# Altium footprint library Resistors.PcbLib: 28 footprints (part 2 of 2)
Each footprint in its own frame and in the unit in brackets; x right, y up, seen from the top. Pads: shape width x height; smd on the part's side, far side on the other; paste and mask are expansions set on the pad; w line width, h text height; cw(c..) or ccw(c..) is an arc to the next point about the centre after c.
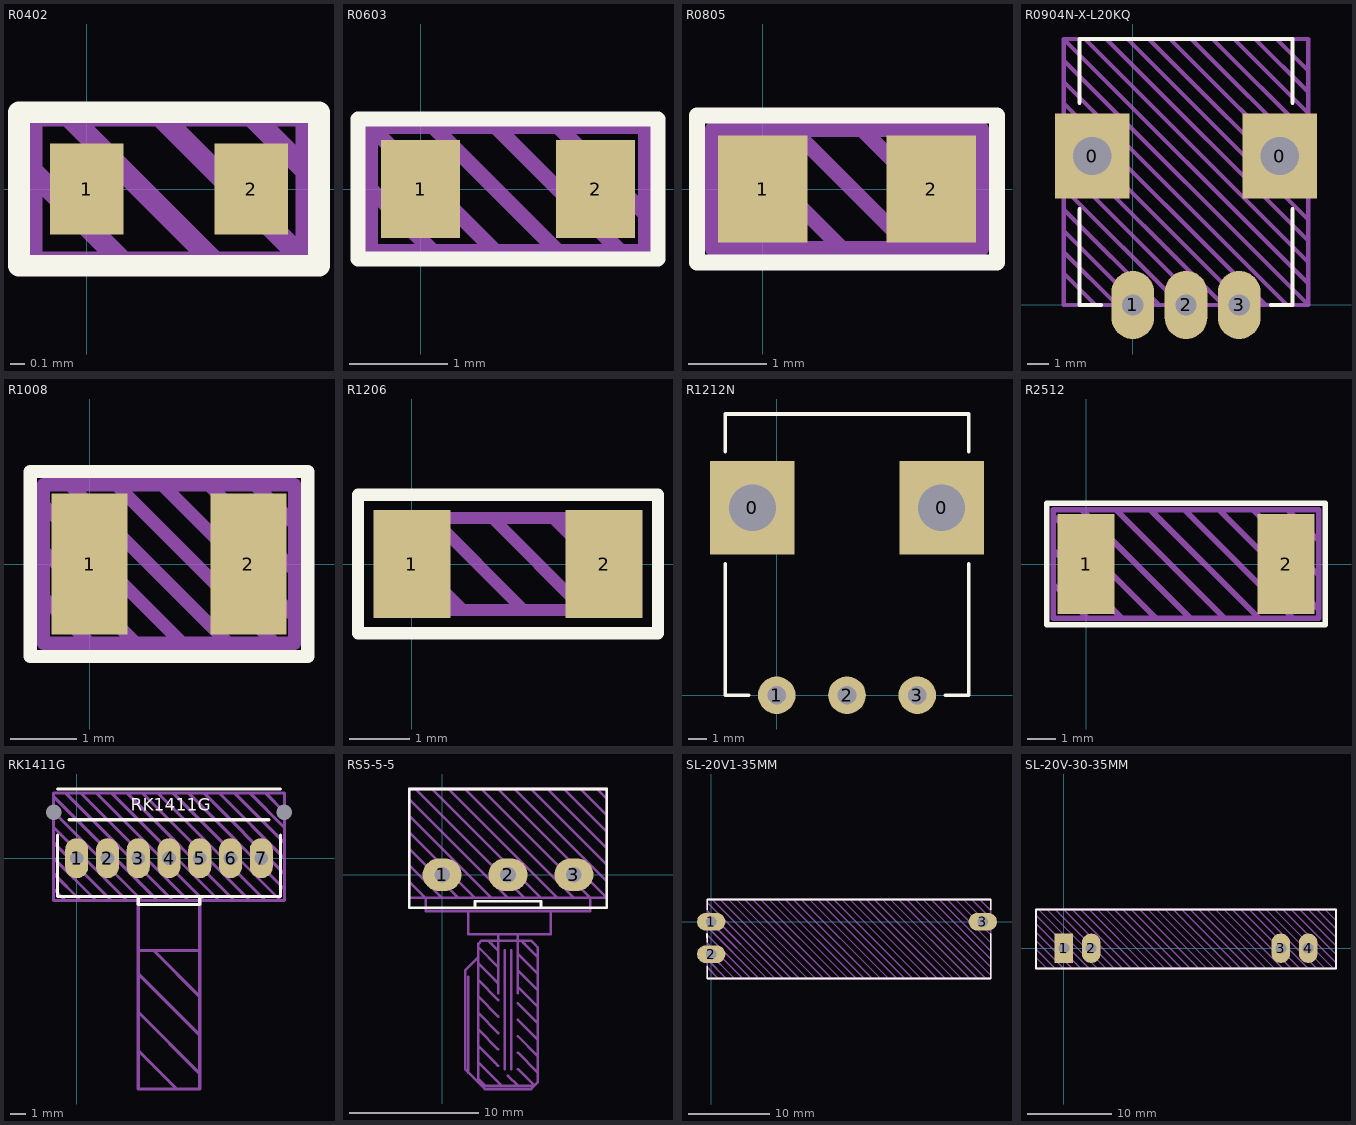
[diagram p1: the footprints below, top view; thin cyan lines are the x and y axes]

## R0402 [mil]
pads (2):
  rect 20x25 smd: 1(0,0) 2(45,0)
Top Overlay:
  lines w5.91: -18.5,-21 63.5,-21 63.5,21 -18.5,21 -18.5,-21
Top Draw:
  lines w5.91: -15,5 10,-20 ; -5,20 35,-20 ; 20,20 60,-20 ; 45,20 60,5 ; 60,-20 60,20 -15,20 -15,-20 60,-20
Top Info:
  text "'.Comment'" at -36.04,-43.04 h13.78
3D body "RESC1005X04N.step": height 15.75, standoff 0, extent 2.03,-10.43 42.97,10.43

## R0603 [mm]
pads (2):
  rect 0.8x1 smd: 1(0,0) 2(1.778,0)
Top Overlay:
  lines w0.15: -0.635,-0.711 2.413,-0.711 2.413,0.711 -0.635,0.711 -0.635,-0.711
Top Draw:
  lines w0.15: -0.508,0 0.127,-0.635 ; 0.127,0.635 1.397,-0.635 ; 0.762,-0.635 -0.508,0.635 ; 0.762,0.635 2.032,-0.635 ; 1.397,0.635 2.286,-0.254 ; -0.508,0.635 2.286,0.635 2.286,-0.635 -0.508,-0.635 -0.508,0.635
Top Info:
  text "'.Comment'" at -1.224,-1.492 h0.5
3D body "Chip2PinSM127P600-8N.step": height 0.5, standoff 0, extent 0.104,-0.395 1.674,0.395

## R0805 [mil]
pads (2):
  rect 45x54 smd: 1(0,0) 2(85,0)
Top Overlay:
  lines w7.87: -33,-37 -33,37 118,37 118,-37 -33,-37
Top Draw:
  lines w7.87: -25,0 5,-30 ; -20,30 40,-30 ; 15,30 75,-30 ; 35,-30 42.5,-30 ; 50,30 110,-30 ; 85,30 110,5 ; 110,-30 110,30 -25,30 -25,-30 110,-30
Top Info:
  text "'.Comment'" at -82.14,-84.15 h29.53
3D body "Chip2PinSM127P600-8N999.step": height 23.62, standoff 0, extent 2.06,-25.98 83.95,25.99

## R0904N-X-L20KQ [mm] "R0904N Family Potentiometer"
pads (5):
  rect 3.5x4 hole 1.8 square: 0(-1.9,7) 0(6.9,7)
  oval 2x3.2 hole 1: 1(0,0) 2(2.5,0) 3(5,0)
Top Overlay:
  lines w0.2: -2.5,4.5 -2.5,0 -1.5,0 ; -2.5,9.5 -2.5,12.5 7.5,12.5 7.5,9.5 ; 6.5,0 7.5,0 7.5,4.5
Top Draw:
  lines w0.2: -3.25,1.5 -1.75,0 ; -3.25,2.5 -0.75,0 ; -3.25,3.5 0.25,0 ; -3.25,4.5 1.25,0 ; -3.25,5.5 2.25,0 ; -3.25,6.5 3.25,0 ; -3.25,7.5 4.25,0 ; -3.25,8.5 5.25,0 ; -3.25,9.5 6.25,0 ; -3.25,10.5 7.25,0 ; -3.25,11.5 8.25,0 ; -2.25,12.5 8.25,2 ; -1.25,12.5 8.25,3 ; -0.25,12.5 8.25,4 ; 0.75,12.5 8.25,5 ; 1.75,12.5 8.25,6 ; 2.75,12.5 8.25,7 ; 3.75,12.5 8.25,8 ; 4.75,12.5 8.25,9 ; 5.75,12.5 8.25,10 ; 6.75,12.5 8.25,11 ; 8.25,1 -3.25,12.5 ; -3.25,12.5 8.25,12.5 8.25,0 ; -3.25,12.5 -3.25,0 8.25,0
Top Info:
  text "'.Comment'" at -1.749,-3.083 h1
3D body "R0904N-L-20KQ.stp": height 20, standoff -3.79, extent -3.2,-0.15 8.2,12.5

## R1008 [mm]
pads (2):
  rect 1.15x2.14 smd: 1(0,0) 2(2.4,0)
Top Overlay:
  lines w0.2: -0.9,-1.4 -0.9,1.4 3.3,1.4 3.3,-1.4 -0.9,-1.4
Top Draw:
  lines w0.2: -0.7,-0.5 0,-1.2 ; -0.7,0.2 0.7,-1.2 ; -0.7,0.9 1.4,-1.2 ; -0.3,1.2 2.1,-1.2 ; 0.4,1.2 2.8,-1.2 ; 1.1,1.2 3.1,-0.8 ; 1.8,1.2 3.1,-0.1 ; 2.5,1.2 3.1,0.6 ; -0.7,-1.2 -0.7,1.2 3.1,1.2 3.1,-1.2 -0.7,-1.2
Top Info:
  text "'.Comment'" at -1.986,-2.537 h0.75
3D body "RESC2520X09N.step": height 0.9, standoff 0, extent -0.05,-1 2.45,1

## R1206 [mil]
pads (2):
  rect 50x70 smd: 1(0,0) 2(125,0)
Top Overlay:
  lines w7.87: -35,-45 160,-45 160,45 -35,45 -35,-45
Top Draw:
  lines w7.87: -15,18.44 33.44,-30 ; 12.81,30 72.81,-30 ; 52.19,30 112.19,-30 ; 91.56,30 140,-18.44 ; -15,-30 140,-30 140,30 -15,30 -15,-30
Top Info:
  text "'.Comment'" at -62.95,-89.22 h29.53
3D body "Chip2PinSM127P600-8Nr.step": height 27.56, standoff 0, extent 1.11,-31.03 123.94,30.78

## R1212N [mm]
pads (5):
  rect 4.5x5 hole 2.5 square: 0(-1.3,10) 0(8.8,10)
  round 2 hole 1: 1(0,0) 2(3.75,0) 3(7.5,0)
Top Overlay:
  lines w0.2: -2.75,7 -2.75,0 -1.5,0 ; -2.75,13 -2.75,15 -2.25,15 10.25,15 10.25,13 ; 9,0 10.25,0 10.25,7
Top Info:
  text "'.Comment'" at -0.499,-2.583 h1

## R2512 [mm]
pads (2):
  rect 2x3.5 smd: 1(0,0) 2(7,0)
Top Overlay:
  lines w0.2: -1.375,-2.125 -1.375,2.125 8.375,2.125 8.375,-2.125 -1.375,-2.125
Top Draw:
  lines w0.2: -1.15,-0.7 0.05,-1.9 ; -1.15,0.5 1.25,-1.9 ; -1.15,1.7 2.45,-1.9 ; -0.15,1.9 3.65,-1.9 ; 1.05,1.9 4.85,-1.9 ; 2.25,1.9 6.05,-1.9 ; 3.45,1.9 7.25,-1.9 ; 4.65,1.9 8.15,-1.6 ; 5.85,1.9 8.15,-0.4 ; 7.05,1.9 8.15,0.8 ; -1.15,-1.9 8.15,-1.9 8.15,1.9 -1.15,1.9 -1.15,-1.9
Top Info:
  text "'.Comment'" at -0.749,-3.583 h1
3D body "RES2512.stp": height 0.55, standoff 0, extent 0.325,-1.6 6.675,1.6
3D body: height 0.55, standoff 0.5, extent 0.825,-1.58 6.175,1.58

## RK1411G [mm]
pads (9):
  oval 1.5x2.6 hole 0.9: 1(0,0) 2(2,0) 3(4,0) 4(6,0) 5(8,0) 6(10,0) 7(12,0)
  round 0 hole 1 square: 7(-1.5,3) 7(13.5,3)
Top Overlay:
  lines w0.2: -1.25,1.5 -1.25,-2.5 13.25,-2.5 13.25,1.5 ; -1.25,4.5 13.25,4.5 ; -0.5,2.5 12.5,2.5 ; 4,-2.5 4,-3 8,-3 8,-2.5
  text "RK1411G" at 3.5,3.1 h0.8
Top Draw:
  lines w0.2: -1.5,-2 -0.75,-2.75 -0.5,-2.75 ; -1.5,-1 0.25,-2.75 1,-2.75 ; -1.5,0 1.25,-2.75 3,-2.75 ; -1.5,1 2.25,-2.75 4,-2.75 3.25,-2.75 -1.5,2 ; -1.5,3 4.25,-2.75 5,-2.75 ; -1.5,4 5,-2.5 5.25,-2.75 ; -0.75,4.25 6.25,-2.75 7,-2.75 ; 0.25,4.25 7.25,-2.75 9,-2.75 8.25,-2.75 1.25,4.25 ; 2.25,4.25 9.25,-2.75 10,-2.75 ; 3.25,4.25 10.25,-2.75 12,-2.75 11.25,-2.75 4.25,4.25 ; 4,-12.5 6.5,-15 7.5,-15 ; 4,-10 8,-14 ; 4,-7.5 8,-11.5 ; 4,-6 8,-6 ; 4,-2.5 4,-15 8,-15 ; 5,-6 8,-9 8,-11.5 ; 5.25,4.25 12.25,-2.75 13.5,-2.75 ; 6.25,4.25 13.25,-2.75 13.5,-2.75 ; 7.25,4.25 13.5,-2 ; 8,-2.5 8,-15 ; 8.25,4.25 13.5,-1 ; 9.25,4.25 13.5,0 13.5,-1 ; 10.25,4.25 13.5,1 ; 11.25,4.25 13.5,2 13.5,-1 ; 12.25,4.25 13.5,3 ; 13.5,-2.5 13.5,-2 ; 8,-15 8,-14 ; 8,-14 8,-11.5 ; 13.5,-2.75 -1.5,-2.75 -1.5,4.25 13.5,4.25 13.5,-2.75 ; 13.5,-2 13.5,-1 ; 13.5,3 13.5,3
Top Info:
  text "'.Comment'" at 2.54,-16.51 h1
3D body: height 1, standoff -1.78, extent 11.65,-0.15 12.35,0.15
3D body: height 1, standoff -1.78, extent 9.65,-0.15 10.35,0.15
3D body: height 1, standoff -1.78, extent 7.65,-0.15 8.35,0.15
3D body: height 1, standoff -1.78, extent 5.65,-0.15 6.35,0.15
3D body: height 1, standoff -1.78, extent 3.65,-0.15 4.35,0.15
3D body: height 1, standoff -1.78, extent 1.65,-0.15 2.35,0.15
3D body: height 1, standoff -1.78, extent -0.35,-0.15 0.35,0.15
3D body: height 4, standoff 1, extent -1.75,1.5 -1.5,4.4
3D body: height 2, standoff -2.54, extent -1.75,2.3 -1.5,3.9
3D body: height 2, standoff -2.54, extent 13.5,2.3 13.75,3.9
3D body: height 12.5, standoff 1, extent 13.5,-1.5 13.75,1.5
3D body: height 5, standoff 2, extent 13.5,-2.25 13.75,-1.5
3D body: height 12, standoff 9, extent 13.5,-2.25 13.75,-1.5
3D body: height 5, standoff 2, extent -1.75,-2.25 -1,-2
3D body: height 12, standoff 9, extent -1.75,-2.25 -1,-2
3D body: height 12, standoff 9, extent 13,-2.25 13.75,-2
3D body: height 10.5, standoff 3.5, extent 2.5,-15 9.5,-2
3D body: height 14, standoff 0.1, extent -1.5,-2 13.5,2
3D body: height 11, standoff 3, extent 2,-3 10,-2
3D body: height 13, standoff 1, extent -1,-2.25 13,-2
3D body: height 5, standoff 2, extent 13,-2.25 13.75,-2
3D body: height 12, standoff 9, extent -1.75,-2.25 -1.5,-1.5
3D body: height 5, standoff 2, extent -1.75,-2.25 -1.5,-1.5
3D body: height 12.5, standoff 1, extent -1.75,-1.5 -1.5,1.5
3D body: height 4, standoff 1, extent 13.5,1.5 13.75,4.4

## RS5-5-5 [mm]
pads (3):
  oval 3x2.5 hole 1.2: 1(0,0) 2(5.08,0) 3(10.16,0)
Top Overlay:
  lines w0.2: 2.54,-2.54 2.54,-2.032 7.62,-2.032 7.62,-2.54 ; 12.446,-2.54 -2.54,-2.54 -2.54,6.604 12.7,6.604 12.7,-2.54 ; 12.446,-2.54 12.7,-2.54 ; 12.446,-2.54 12.7,-2.54
Top Draw:
  lines w0.2: -2.54,-0.508 -1.27,-1.778 -1.27,-2.794 11.43,-2.794 11.43,-1.778 3.048,6.604 ; -2.54,0.762 0,-1.778 ; -2.54,2.032 1.27,-1.778 ; -2.54,3.302 2.54,-1.778 ; -2.54,4.572 3.81,-1.778 ; -2.54,5.842 5.08,-1.778 ; -2.032,6.604 6.35,-1.778 ; -1.016,-1.778 0.254,-1.778 ; -0.762,6.604 7.62,-1.778 ; 0.508,6.604 8.89,-1.778 ; 1.524,-1.778 2.794,-1.778 ; 1.778,6.604 10.16,-1.778 ; 2.032,-15.24 2.032,-7.874 ; 2.032,-2.794 2.032,-4.572 8.382,-4.572 8.382,-2.794 ; 2.794,-15.748 3.302,-16.256 ; 2.794,-14.478 4.572,-16.256 ; 2.794,-13.208 4.064,-14.478 4.318,-14.732 ; 2.794,-11.938 4.318,-13.462 ; 2.794,-10.668 4.318,-12.192 ; 2.794,-9.398 4.318,-10.922 ; 2.794,-8.128 4.318,-9.652 ; 2.794,-6.858 4.064,-8.128 4.318,-8.382 ; 2.794,-6.35 1.778,-7.366 1.778,-14.986 2.794,-16.002 ; 2.794,-2.794 4.064,-2.794 ; 3.556,-5.08 3.81,-5.334 4.318,-5.842 ; 4.064,-16.256 5.334,-16.256 ; 4.064,-1.778 5.334,-1.778 ; 4.318,-9.144 4.318,-4.572 ; 4.318,-7.112 2.794,-5.588 ; 4.318,6.604 12.7,-1.778 ; 4.826,-14.986 4.826,-13.462 4.826,-5.842 ; 5.08,-15.494 5.842,-16.256 ; 5.334,-14.986 5.334,-13.462 5.334,-5.842 ; 5.334,-2.794 6.604,-2.794 ; 5.588,6.604 12.7,-0.508 ; 5.842,-14.986 7.112,-16.256 ; 5.842,-13.716 7.366,-15.24 ; 5.842,-12.446 7.366,-13.97 ; 5.842,-11.176 7.366,-12.7 ; 5.842,-9.906 7.366,-11.43 ; 5.842,-9.144 5.842,-4.572 7.112,-4.572 ; 5.842,-8.636 7.366,-10.16 ; 5.842,-7.366 7.366,-8.89 ; 5.842,-6.096 7.366,-7.62 ; 6.096,-5.08 6.35,-5.334 7.366,-6.35 ; 6.604,-1.778 7.874,-1.778 ; 6.858,6.604 12.7,0.762 ; 8.128,6.604 12.7,2.032 ; 9.144,-1.778 10.414,-1.778 ; 9.398,6.604 12.7,3.302 ; 10.668,6.604 12.7,4.572 ; 11.938,6.604 12.7,5.842 ; 2.794,-16.002 2.794,-14.224 2.794,-5.588 ; 2.794,-16.002 3.048,-16.256 ; 2.794,-5.588 2.794,-5.334 3.048,-5.08 6.858,-5.08 7.112,-5.334 7.366,-5.588 7.366,-13.716 7.366,-15.494 7.366,-16.002 7.112,-16.256 ; 3.048,-16.256 3.302,-16.51 6.858,-16.51 7.112,-16.256 ; 3.048,-16.256 7.112,-16.256 ; 12.7,-1.778 -2.54,-1.778 -2.54,6.604 12.7,6.604 12.7,-1.778
Top Info:
  text "'.Comment'" at 0,-20.32 h1.25
3D body: height 8.13, standoff 7.11, extent 1.118,-18.796 8.633,-16.383
3D body: height 7.87, standoff 7.37, extent 0.762,-18.796 3.46,-16.002
3D body: height 8.13, standoff 7.11, extent 0.762,-16.383 1.653,-2.413
3D body: height 11.18, standoff 4.06, extent 1.524,-16.383 8.636,-2.413
3D body: height 12.19, standoff 3.05, extent 0.508,-1.778 9.652,-1.016
3D body: height 15.19, standoff 0.05, extent -2.489,0.254 12.649,6.604
3D body: height 13.21, standoff 2.03, extent -0.508,-0.254 10.668,1.016
3D body: height 15.24, standoff 0, extent -2.54,-0.635 12.7,-0.254
3D body: height 7.62, standoff 0.13, extent -2.54,-0.635 12.7,-0.254
3D body: height 0.25, standoff -2.29, extent 9.779,-0.254 10.541,0.254
3D body: height 0.25, standoff -2.29, extent 4.699,-0.254 5.461,0.254
3D body: height 0.25, standoff -2.29, extent -0.381,-0.254 0.381,0.254
3D body: height 5.08, standoff 0.23, extent -1.651,-0.254 1.651,0.254
3D body: height 5.08, standoff 0.23, extent 3.429,-0.254 6.731,0.254
3D body: height 5.08, standoff 0.23, extent 8.509,-0.254 11.811,0.254
3D body: height 10.16, standoff 4.57, extent -1.905,-1.016 12.065,-0.635
3D body: height 9.65, standoff 5.59, extent 3.048,-14.478 7.112,-1.778
3D body: height 7.87, standoff 7.37, extent 0.737,-16.027 0.787,-2.667
3D body: height 7.87, standoff 7.37, extent 0.737,-2.667 1.016,-2.413
3D body: height 4.06, standoff 1.02, extent -1.524,-0.762 1.524,-0.508
3D body: height 4.06, standoff 1.02, extent 3.556,-0.762 6.604,-0.508
3D body: height 4.06, standoff 1.02, extent 8.636,-0.762 11.684,-0.508

## SL-20V1-35MM [mm]
pads (3):
  oval 3.5x2.2 hole 1.3: 1(0,0) 2(0,-4) 3(33.5,0)
Top Overlay:
  lines w0.2: -0.512,-1.5 -0.5,-2.5 ; -0.5,-5.5 -0.5,-7 34.5,-7 34.5,-1.5 ; -0.5,1.5 -0.5,2.75 34.5,2.75 34.5,1.5
Top Draw:
  lines w0.2: -0.5,-5.625 0.875,-7 ; -0.5,-4.625 1.875,-7 ; -0.5,-3.625 2.875,-7 ; -0.5,-2.625 3.875,-7 ; -0.5,-1.625 4.875,-7 ; -0.5,-0.625 5.875,-7 ; -0.5,0.375 6.875,-7 ; -0.5,1.375 7.875,-7 ; -0.5,2.375 8.875,-7 ; 0.125,2.75 9.875,-7 ; 1.125,2.75 10.875,-7 ; 2.125,2.75 11.875,-7 ; 3.125,2.75 12.875,-7 ; 4.125,2.75 13.875,-7 ; 5.125,2.75 14.875,-7 ; 6.125,2.75 15.875,-7 ; 7.125,2.75 16.875,-7 ; 8.125,2.75 17.875,-7 ; 9.125,2.75 18.875,-7 ; 10.125,2.75 19.875,-7 ; 11.125,2.75 20.875,-7 ; 12.125,2.75 21.875,-7 ; 13.125,2.75 22.875,-7 ; 14.125,2.75 23.875,-7 ; 15.125,2.75 24.875,-7 ; 16.125,2.75 25.875,-7 ; 17.125,2.75 26.875,-7 ; 18.125,2.75 27.875,-7 ; 19.125,2.75 28.875,-7 ; 20.125,2.75 29.875,-7 ; 21.125,2.75 30.875,-7 ; 22.125,2.75 31.875,-7 ; 23.125,2.75 32.875,-7 ; 24.125,2.75 33.875,-7 ; 25.125,2.75 34.5,-6.625 ; 26.125,2.75 34.5,-5.625 ; 27.125,2.75 34.5,-4.625 ; 28.125,2.75 34.5,-3.625 ; 29.125,2.75 34.5,-2.625 ; 30.125,2.75 34.5,-1.625 ; 31.125,2.75 34.5,-0.625 ; 32.125,2.75 34.5,0.375 ; 33.125,2.75 34.5,1.375 ; -0.5,-7 -0.5,2.75 34.5,2.75 34.5,-7 -0.5,-7
Top Info:
  text "'.Comment'" at 8.603,-9.866 h2
3D body: height 5.5, standoff 4.5, extent 3,-4.1 31.05,-3.5
3D body: height 5.5, standoff 4.5, extent 3,-0.6 31.05,0
3D body: height 5.5, standoff 4.5, extent 30.5,-4.3 31.05,-0.3
3D body: height 5.5, standoff 4.5, extent 3,-4 3.5,0
3D body: height 15.5, standoff 6, extent 7.5,-2.6 11.2,-1.4
3D body: height 5.5, standoff 5, extent 30.5,-6.9 34.5,2.8
3D body: height 1.5, standoff 0.1, extent 33.746,-0.7 34.254,0.7
3D body: height 1.5, standoff 0.1, extent -0.254,-4.7 0.254,-3.3
3D body: height 10.5, standoff 4.4, extent 6.6,-2.6 12.1,-1.4
3D body: height 4.5, standoff 4, extent 5.427,-4.016 13.237,0.032
3D body: height 2, standoff 0.3, extent -0.2,-6.7 34.2,2.6
3D body: height 0.1, standoff -3, extent -0.254,-0.508 0.254,0.508
3D body: height 0.1, standoff -3, extent -0.254,-4.508 0.254,-3.492
3D body: height 0.1, standoff -3, extent 33.246,-0.508 33.754,0.508
3D body: height 1.5, standoff 0.1, extent -0.254,-0.7 0.254,0.7
3D body: height 5.4, standoff 1.7, extent 34.2,-6.9 34.5,2.8
3D body: height 5.4, standoff 1.7, extent -0.5,-6.9 -0.2,2.8
3D body: height 5.4, standoff 1.5, extent -0.4,2.6 34.4,2.8
3D body: height 5.4, standoff 1.5, extent -0.4,-6.9 34.4,-6.7
3D body: height 3, standoff 0.3, extent 6.3,-6.9 9.8,-6.7
3D body: height 3, standoff 0, extent 11.3,-6.9 13.3,-6.7
3D body: height 0.3, standoff 0, extent 11.3,-6.9 13.3,-6.2
3D body: height 0.3, standoff 0, extent 6.3,-6.9 9.8,-6
3D body: height 0.3, standoff 0, extent 24.2,-6.9 27.7,-6
3D body: height 0.3, standoff 0, extent 20.7,-6.9 22.7,-6.2
3D body: height 3, standoff 0, extent 20.7,-6.9 22.7,-6.7
3D body: height 3, standoff 0.3, extent 24.2,-6.9 27.7,-6.7
3D body: height 3, standoff 0.3, extent 24.2,2.6 27.7,2.8
3D body: height 3, standoff 0, extent 20.7,2.6 22.7,2.8
3D body: height 0.3, standoff 0, extent 20.7,2.1 22.7,2.8
3D body: height 0.3, standoff 0, extent 24.2,1.9 27.7,2.8
3D body: height 0.3, standoff 0, extent 6.3,1.9 9.8,2.8
3D body: height 0.3, standoff 0, extent 11.3,2.1 13.3,2.8
3D body: height 3, standoff 0, extent 11.3,2.6 13.3,2.8
3D body: height 3, standoff 0.3, extent 6.3,2.6 9.8,2.8
3D body: height 5.5, standoff 5, extent -0.5,-6.9 3.5,2.8
3D body: height 5.5, standoff 5.4, extent 3,-6.8 31.5,-3.5
3D body: height 5.5, standoff 5.4, extent 3,-0.6 31.5,2.7

## SL-20V-30-35MM [mm]
pads (4):
  rect 2.2x3.5 hole 1.3: 1(0,0)
  oval 2.2x3.5 hole 1.3: 2(3.25,0) 3(25.75,0) 4(29,0)
Top Overlay:
  lines w0.2: -3.3,-2.4 -3.3,4.6 32.3,4.6 32.3,-2.4 -3.3,-2.4
Top Draw:
  lines w0.2: -3.3,-1.1 -2,-2.4 ; -3.3,-0.1 -1,-2.4 ; -3.3,0.9 0,-2.4 ; -3.3,1.9 1,-2.4 ; -3.3,2.9 2,-2.4 ; -3.3,3.9 3,-2.4 ; -3,4.6 4,-2.4 ; -2,4.6 5,-2.4 ; -1,4.6 6,-2.4 ; 0,4.6 7,-2.4 ; 1,4.6 8,-2.4 ; 2,4.6 9,-2.4 ; 3,4.6 10,-2.4 ; 4,4.6 11,-2.4 ; 5,4.6 12,-2.4 ; 6,4.6 13,-2.4 ; 7,4.6 14,-2.4 ; 8,4.6 15,-2.4 ; 9,4.6 16,-2.4 ; 10,4.6 17,-2.4 ; 11,4.6 18,-2.4 ; 12,4.6 19,-2.4 ; 13,4.6 20,-2.4 ; 14,4.6 21,-2.4 ; 15,4.6 22,-2.4 ; 16,4.6 23,-2.4 ; 17,4.6 24,-2.4 ; 18,4.6 25,-2.4 ; 19,4.6 26,-2.4 ; 20,4.6 27,-2.4 ; 21,4.6 28,-2.4 ; 22,4.6 29,-2.4 ; 23,4.6 30,-2.4 ; 24,4.6 31,-2.4 ; 25,4.6 32,-2.4 ; 26,4.6 32.3,-1.7 ; 27,4.6 32.3,-0.7 ; 28,4.6 32.3,0.3 ; 29,4.6 32.3,1.3 ; 30,4.6 32.3,2.3 ; 31,4.6 32.3,3.3 ; -3.3,-2.4 32.3,-2.4 32.3,4.6 -3.3,4.6 -3.3,-2.4
Top Info:
  text "'.Comment'" at 5.503,-5.266 h2
3D body: height 6, standoff 3, extent 28.448,-0.803 28.6,3
3D body: height 6, standoff 3, extent 0.2,-0.803 28.6,-0.597
3D body: height 6, standoff 3, extent 0.3,2.794 28.7,3
3D body: height 0.1, standoff -1.78, extent 28.492,-0.254 29.508,0.254
3D body: height 0.1, standoff -1.78, extent 25.242,-0.254 26.258,0.254
3D body: height 0.1, standoff -1.78, extent 2.742,-0.254 3.758,0.254
3D body: height 0.1, standoff -1.78, extent -0.508,-0.254 0.508,0.254
3D body: height 10, standoff 5.8, extent 3.175,0.635 8.636,1.397
3D body: height 5.9, standoff 5, extent 2.032,-1 9.842,3.048
3D body: height 6, standoff 5.9, extent -3.302,-2.413 32.258,-0.6
3D body: height 6, standoff 5.9, extent -3.302,2.794 32.258,4.572
3D body: height 6, standoff 5.9, extent 28.448,-2.413 32.258,4.572
3D body: height 6, standoff 5.9, extent -3.302,-2.413 0.508,4.572
3D body: height 2, standoff 0, extent 20.955,4.445 23.495,4.572
3D body: height 2, standoff 0, extent 5.461,4.445 8.001,4.572
3D body: height 2, standoff 0, extent -3.302,-2.413 -2.413,-2.286
3D body: height 5.6, standoff 0.9, extent -3.302,4.445 32.258,4.572
3D body: height 5.6, standoff 0.9, extent -3.302,-2.413 32.258,-2.286
3D body: height 6, standoff 0.9, extent 32.131,-2.159 32.258,4.318
3D body: height 6, standoff 0.9, extent -3.302,-2.159 -3.175,4.318
3D body: height 2, standoff 0.1, extent -3.175,-2.286 32.131,4.445
3D body: height 2, standoff 0, extent -3.302,4.445 -2.413,4.572
3D body: height 2, standoff 0, extent 31.369,4.445 32.258,4.572
3D body: height 2, standoff 0, extent 31.369,-2.413 32.258,-2.286
3D body: height 2, standoff 0, extent 5.461,-2.413 8.001,-2.286
3D body: height 2, standoff 0, extent 20.955,-2.413 23.495,-2.286
3D body: height 6, standoff 3, extent 0.356,-0.803 0.508,3